# Altium integrated library TI Power Management Power Modules.IntLib: 831 symbols (part 12 of 44)
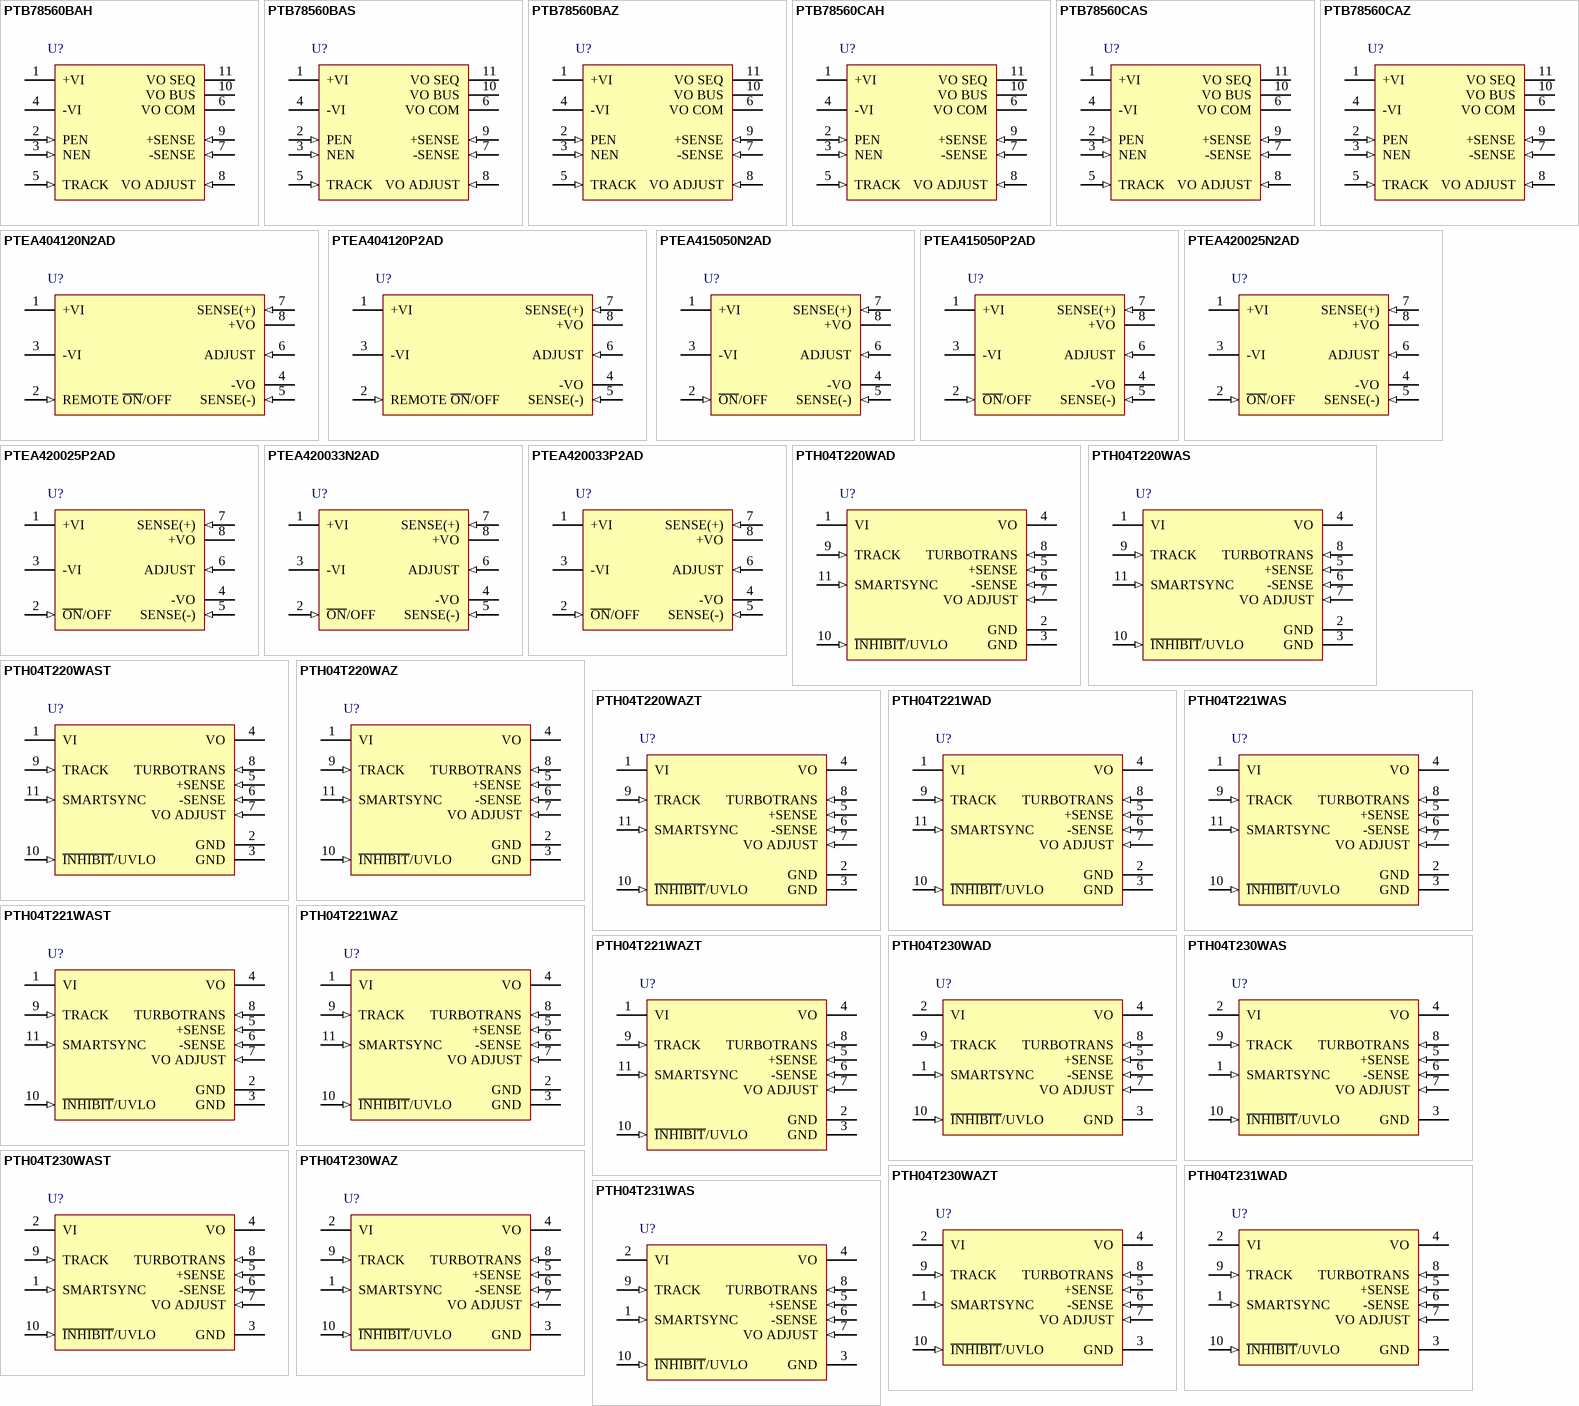
[diagram p34: symbols PTB78560BAH to PTH04T231WAS]

## PTB78560CAH
designator U?
30 W, 24 V / 48 V Input DC-DC Converter With Auto-Track Sequencing, -40 to 85 degC, 11-pin Module (ERW11), Pb-Free (RoHS); Manufacturer: Texas Instruments; PartNumber: PTB78560CAH; Iout(Max)(A): 2.5; Regulated Outputs(#): 1; SubFamily: Standard Brick Module; Vin(Max)(V): 60; Vin(Min)(V): 18; VO Adjustable: TRUE; Vout(Max)(V): 13.2; Vout(Min)(V): 9; DatasheetVersion: SLTS249; PackageVersion: 4206562/A; PackageReference: ERW11; PackageDescription: 11-Pin Plastic Special Shape, Body 26.54 x 51.94 mm; Supplier 1: Digi-Key; Supplier Part Number 1: 296-20363-ND; Supplier 2: Newark; Supplier Part Number 2: 43K4054; Supplier 3: Mouser; Supplier Part Number 3: 595-PTB78560CAH; Eco-Plan: Pb-Free (RoHS); Mounting Technology: Through Hole; ComponentLink1Description: Manufacturer URL; ComponentLink1URL: http://www.ti.com/; ComponentLink2Description: Datasheet; ComponentLink2URL: http://www.ti.com/general/docs/lit/getliterature.tsp?genericPartNumber=PTB78560C&fileType=pdf; ComponentLink3Description: Package Specification; ComponentLink3URL: http://www.ti.com/litv/pdf/mpds197; ComponentLink4Description: URL Link1; ComponentLink4URL: Samples URL:http://www.ti.com/product/ptb78560c#samples
footprint TI-ERW11_V (Module, 11-Leads, Body 51.94x26.54 mm)
pins: 1 +VI (power) "The positive input for the module with respect to -VI . When powering the module from a negative input voltage, this input is connected to the input source ground.", 2 PEN (in) "An open-collector (open-drain) positive logic input that is referenced to -VI . When this input is pulled to potential the converter output is disabled. This input must be open circuit for the converter to operate. The (See Datasheet)", 3 NEN (in) "An open-collector (open-drain) negative logic input that is referenced to -VI . This input must be pulled to -VI potential to enable the converter. When the input is open circuit, the converter output is disabled. If the (See Datasheet)", 4 -VI (power) "The negative input supply for the module, and the 0-V reference for the PEN and NEN enable inputs. When powering the module from a positive source, this input is connected to the input source return.", 5 TRACK (in) "This terminal is used in power-up sequencing applications to control the output voltage of Auto-Track compatible modules, powered from the converter VOBus output. This includes the converter VOSeq output on the PTB78560B. (See Datasheet)", 6 VO COM (power) "This is the output power return for both the VO Bus and VO Seq output voltages. This terminal should be connected to the common of the load circuit.", 7 -SENSE (in) "Provides the converter with a remote sense capability when used with +Sense. For optimum output voltage accuracy, this pin should always be connected to VOCOM, close to the load circuit. This terminal is also the reference (See Datasheet)", 8 VO ADJUST (in) "A resistor must be connected between this terminal and -Sense to set the converter output voltage. A 0.05-W rated resistor may be used, with tolerance and temperature stability of 1% and 100 ppm/degreesC, respectively. If (See Datasheet)", 9 +SENSE (in) "The +Sense pin can be connected to VOBus (or VOSeq) output. When connected to VOSeq, remote sense compensation is delayed until the converter's power-up sequence is complete. The voltage at VOBus is also raised slightly. The (See Datasheet)", 10 VO BUS (power) "This is the positive power output with respect to VO COM, and the main output from the converter. It is dc isolated from the input power pins and produces a valid output voltage approximately 20 ms before the voltage at the (See Datasheet)", 11 VO SEQ (power) "This is a sequenced output voltage from the converter that is controlled by the Track terminal during power-up transitions. It is only available to the PTB78560B, and used with the output voltage set to 3.3 V (an I/O supply (See Datasheet)"

## PTB78560CAS
designator U?
30 W, 24 V / 48 V Input DC-DC Converter With Auto-Track Sequencing, -40 to 85 degC, 11-pin Module (ERY11); Manufacturer: Texas Instruments; PartNumber: PTB78560CAS; Eco-Plan: TBD; Iout(Max)(A): 2.5; Regulated Outputs(#): 1; SubFamily: Standard Brick Module; Vin(Max)(V): 60; Vin(Min)(V): 18; VO Adjustable: TRUE; Vout(Max)(V): 13.2; Vout(Min)(V): 9; DatasheetVersion: SLTS249; PackageVersion: 4206563/A; PackageReference: ERY11; PackageDescription: 11-Pin Plastic Special Shape, Body 26.54 x 51.94 mm; Supplier 1: Digi-Key; Supplier Part Number 1: 296-20364-ND; Supplier 2: Newark; Supplier Part Number 2: 43K4055; Supplier 3: Mouser; Supplier Part Number 3: 595-PTB78560CAS; Mounting Technology: Surface Mount; ComponentLink1Description: Manufacturer URL; ComponentLink1URL: http://www.ti.com/; ComponentLink2Description: Datasheet; ComponentLink2URL: http://www.ti.com/general/docs/lit/getliterature.tsp?genericPartNumber=PTB78560C&fileType=pdf; ComponentLink3Description: Package Specification; ComponentLink3URL: http://www.ti.com/lit/ml/mpds198/mpds198.pdf; ComponentLink4Description: URL Link1; ComponentLink4URL: Samples URL:http://www.ti.com/product/ptb78560c#samples
footprint TI-ERY11_V (Module, 11-Leads, Body 51.94x26.54mm)
pins: 1 +VI (power) "The positive input for the module with respect to -VI . When powering the module from a negative input voltage, this input is connected to the input source ground.", 2 PEN (in) "An open-collector (open-drain) positive logic input that is referenced to -VI . When this input is pulled to potential the converter output is disabled. This input must be open circuit for the converter to operate. The (See Datasheet)", 3 NEN (in) "An open-collector (open-drain) negative logic input that is referenced to -VI . This input must be pulled to -VI potential to enable the converter. When the input is open circuit, the converter output is disabled. If the (See Datasheet)", 4 -VI (power) "The negative input supply for the module, and the 0-V reference for the PEN and NEN enable inputs. When powering the module from a positive source, this input is connected to the input source return.", 5 TRACK (in) "This terminal is used in power-up sequencing applications to control the output voltage of Auto-Track compatible modules, powered from the converter VOBus output. This includes the converter VOSeq output on the PTB78560B. (See Datasheet)", 6 VO COM (power) "This is the output power return for both the VO Bus and VO Seq output voltages. This terminal should be connected to the common of the load circuit.", 7 -SENSE (in) "Provides the converter with a remote sense capability when used with +Sense. For optimum output voltage accuracy, this pin should always be connected to VOCOM, close to the load circuit. This terminal is also the reference (See Datasheet)", 8 VO ADJUST (in) "A resistor must be connected between this terminal and -Sense to set the converter output voltage. A 0.05-W rated resistor may be used, with tolerance and temperature stability of 1% and 100 ppm/degreesC, respectively. If (See Datasheet)", 9 +SENSE (in) "The +Sense pin can be connected to VOBus (or VOSeq) output. When connected to VOSeq, remote sense compensation is delayed until the converter's power-up sequence is complete. The voltage at VOBus is also raised slightly. The (See Datasheet)", 10 VO BUS (power) "This is the positive power output with respect to VO COM, and the main output from the converter. It is dc isolated from the input power pins and produces a valid output voltage approximately 20 ms before the voltage at the (See Datasheet)", 11 VO SEQ (power) "This is a sequenced output voltage from the converter that is controlled by the Track terminal during power-up transitions. It is only available to the PTB78560B, and used with the output voltage set to 3.3 V (an I/O supply (See Datasheet)"

## PTB78560CAZ
designator U?
30 W, 24 V / 48 V Input DC-DC Converter With Auto-Track Sequencing, -40 to 85 degC, 11-pin Module (ERY11), Pb-Free (RoHS); Manufacturer: Texas Instruments; PartNumber: PTB78560CAZ; Iout(Max)(A): 2.5; Regulated Outputs(#): 1; SubFamily: Standard Brick Module; Vin(Max)(V): 60; Vin(Min)(V): 18; VO Adjustable: TRUE; Vout(Max)(V): 13.2; Vout(Min)(V): 9; DatasheetVersion: SLTS249; PackageVersion: 4206563/A; PackageReference: ERY11; PackageDescription: 11-Pin Plastic Special Shape, Body 26.54 x 51.94 mm; Supplier 1: Digi-Key; Supplier Part Number 1: 296-20365-ND; Supplier 2: Newark; Supplier Part Number 2: 43K4056; Supplier 3: Mouser; Supplier Part Number 3: 595-PTB78560CAZ; Eco-Plan: Pb-Free (RoHS); Mounting Technology: Surface Mount; ComponentLink1Description: Manufacturer URL; ComponentLink1URL: http://www.ti.com/; ComponentLink2Description: Datasheet; ComponentLink2URL: http://www.ti.com/general/docs/lit/getliterature.tsp?genericPartNumber=PTB78560C&fileType=pdf; ComponentLink3Description: Package Specification; ComponentLink3URL: http://www.ti.com/lit/ml/mpds198/mpds198.pdf; ComponentLink4Description: URL Link1; ComponentLink4URL: Samples URL:http://www.ti.com/product/tps55010#samples
footprint TI-ERY11_V (Module, 11-Leads, Body 51.94x26.54mm)
pins: 1 +VI (power) "The positive input for the module with respect to -VI . When powering the module from a negative input voltage, this input is connected to the input source ground.", 2 PEN (in) "An open-collector (open-drain) positive logic input that is referenced to -VI . When this input is pulled to potential the converter output is disabled. This input must be open circuit for the converter to operate. The (See Datasheet)", 3 NEN (in) "An open-collector (open-drain) negative logic input that is referenced to -VI . This input must be pulled to -VI potential to enable the converter. When the input is open circuit, the converter output is disabled. If the (See Datasheet)", 4 -VI (power) "The negative input supply for the module, and the 0-V reference for the PEN and NEN enable inputs. When powering the module from a positive source, this input is connected to the input source return.", 5 TRACK (in) "This terminal is used in power-up sequencing applications to control the output voltage of Auto-Track compatible modules, powered from the converter VOBus output. This includes the converter VOSeq output on the PTB78560B. (See Datasheet)", 6 VO COM (power) "This is the output power return for both the VO Bus and VO Seq output voltages. This terminal should be connected to the common of the load circuit.", 7 -SENSE (in) "Provides the converter with a remote sense capability when used with +Sense. For optimum output voltage accuracy, this pin should always be connected to VOCOM, close to the load circuit. This terminal is also the reference (See Datasheet)", 8 VO ADJUST (in) "A resistor must be connected between this terminal and -Sense to set the converter output voltage. A 0.05-W rated resistor may be used, with tolerance and temperature stability of 1% and 100 ppm/degreesC, respectively. If (See Datasheet)", 9 +SENSE (in) "The +Sense pin can be connected to VOBus (or VOSeq) output. When connected to VOSeq, remote sense compensation is delayed until the converter's power-up sequence is complete. The voltage at VOBus is also raised slightly. The (See Datasheet)", 10 VO BUS (power) "This is the positive power output with respect to VO COM, and the main output from the converter. It is dc isolated from the input power pins and produces a valid output voltage approximately 20 ms before the voltage at the (See Datasheet)", 11 VO SEQ (power) "This is a sequenced output voltage from the converter that is controlled by the Track terminal during power-up transitions. It is only available to the PTB78560B, and used with the output voltage set to 3.3 V (an I/O supply (See Datasheet)"

## PTEA404120N2AD
designator U?
50 W, 48 V Input, 12 V Output, Isolated DC-DC Converter, -40 to 85 degC, 8-pin Module (EAW8), Pb-Free (RoHS); Manufacturer: Texas Instruments; PartNumber: PTEA404120N2AD; Iout(Max)(A): 4.2; Regulated Outputs(#): 1; SubFamily: 48V Standard Pinout Brick and 36V to 75V Input; Vin(Max)(V): 75; Vin(Min)(V): 36; VO Adjustable: TRUE; Vout(Max)(V): 13.2; Vout(Min)(V): 7.2; DatasheetVersion: SLTS274C; PackageVersion: 4208117/B; PackageReference: EAW8; PackageDescription: 8-Pin Plastic Special Shape, Body 22.86 x 56.39 mm; Supplier 1: Digi-Key; Supplier Part Number 1: 296-21399-ND; Supplier 2: Farnell; Supplier Part Number 2: 1755090; Supplier 3: Newark; Supplier Part Number 3: 27M0662; Supplier 4: Mouser; Supplier Part Number 4: 595-PTEA404120N2AD; Eco-Plan: Pb-Free (RoHS); Mounting Technology: Through Hole; ComponentLink1Description: Manufacturer URL; ComponentLink1URL: http://www.ti.com/; ComponentLink2Description: Datasheet; ComponentLink2URL: http://www.ti.com/general/docs/lit/getliterature.tsp?genericPartNumber=PTEA404120&fileType=pdf; ComponentLink3Description: Package Specification; ComponentLink3URL: http://www.ti.com/lit/ml/mpds296a/mpds296a.pdf; ComponentLink4Description: URL Link1; ComponentLink4URL: Samples URL:http://www.ti.com/product/ptea404120#samples
footprint TI-EAW8_V (Module, 8-Leads, Body 56.39x22.86mm)
pins: 1 +VI (power) "The positive input for the module with respect to -VI. When powering the module from a -48-V telecom central office supply, this input is connected to the primary system ground.", 2 REMOTE ~{ON}/OFF (in) "This input controls the On/Off status of the output voltage. It is either driven low (-VI potential), or left open-circuit. For units identified with the NEN option, applying a logic low to this pin will enable the output. (See Datasheet)", 3 -VI (power) "The negative input supply for the module, and the 0 VDC reference for the Remote On/Off input. When powering the module from a +48-V supply, this input is connected to the 48-V return.", 4 -VO (power) "The negative power output with respect to +VO, which is DC isolated from the input supply pins. This output is normally connected to the secondary circuit common when a positive output voltage is desired.", 5 SENSE(-) (in) "Provides the converter with an output sense capability when used in conjunction with Sense(+) input. For optimum output voltage accuracy this pin should always be connected to -VO.", 6 ADJUST (in) "Allows the output voltage to be trimmed by up or down between +10% and -20% of its nominal value. The adjustment method uses a single external resistor. Connecting the resistor between VO Adjust and -VO adjusts the output (See Datasheet)", 7 SENSE(+) (in) "Provides the converter with an output sense capability to regulate the set-point voltage directly at the load. When used with Sense(-), the regulation circuitry will compensate for voltage drop between the converter and the (See Datasheet)", 8 +VO (power) "The positive power output with respect to -VO, which is DC isolated from the input supply pins. If a negative output voltage is desired, +VO should be connected to the secondary circuit common and the output taken from -VO."

## PTEA404120P2AD
designator U?
50 W, 48 V Input, 12 V Output, Isolated DC-DC Converter, -40 to 85 degC, 8-pin Module (EAW8), Pb-Free (RoHS); Manufacturer: Texas Instruments; PartNumber: PTEA404120P2AD; Iout(Max)(A): 4.2; Regulated Outputs(#): 1; SubFamily: 48V Standard Pinout Brick and 36V to 75V Input; Vin(Max)(V): 75; Vin(Min)(V): 36; VO Adjustable: TRUE; Vout(Max)(V): 13.2; Vout(Min)(V): 7.2; DatasheetVersion: SLTS274C; PackageVersion: 4208117/B; PackageReference: EAW8; PackageDescription: 8-Pin Plastic Special Shape, Body 22.86 x 56.39 mm; Supplier 1: Digi-Key; Supplier Part Number 1: 296-21400-ND; Supplier 2: Newark; Supplier Part Number 2: 27M0663; Supplier 3: Mouser; Supplier Part Number 3: 595-PTEA404120P2AD; Eco-Plan: Pb-Free (RoHS); Mounting Technology: Through Hole; ComponentLink1Description: Manufacturer URL; ComponentLink1URL: http://www.ti.com/; ComponentLink2Description: Datasheet; ComponentLink2URL: http://www.ti.com/general/docs/lit/getliterature.tsp?genericPartNumber=PTEA404120&fileType=pdf; ComponentLink3Description: Package Specification; ComponentLink3URL: http://www.ti.com/lit/ml/mpds296a/mpds296a.pdf; ComponentLink4Description: URL Link1; ComponentLink4URL: Samples URL:http://www.ti.com/product/ptea404120#samples
footprint TI-EAW8_V (Module, 8-Leads, Body 56.39x22.86mm)
pins: 1 +VI (power) "The positive input for the module with respect to -VI. When powering the module from a -48-V telecom central office supply, this input is connected to the primary system ground.", 2 REMOTE ~{ON}/OFF (in) "This input controls the On/Off status of the output voltage. It is either driven low (-VI potential), or left open-circuit. For units identified with the NEN option, applying a logic low to this pin will enable the output. (See Datasheet)", 3 -VI (power) "The negative input supply for the module, and the 0 VDC reference for the Remote On/Off input. When powering the module from a +48-V supply, this input is connected to the 48-V return.", 4 -VO (power) "The negative power output with respect to +VO, which is DC isolated from the input supply pins. This output is normally connected to the secondary circuit common when a positive output voltage is desired.", 5 SENSE(-) (in) "Provides the converter with an output sense capability when used in conjunction with Sense(+) input. For optimum output voltage accuracy this pin should always be connected to -VO.", 6 ADJUST (in) "Allows the output voltage to be trimmed by up or down between +10% and -20% of its nominal value. The adjustment method uses a single external resistor. Connecting the resistor between VO Adjust and -VO adjusts the output (See Datasheet)", 7 SENSE(+) (in) "Provides the converter with an output sense capability to regulate the set-point voltage directly at the load. When used with Sense(-), the regulation circuitry will compensate for voltage drop between the converter and the (See Datasheet)", 8 +VO (power) "The positive power output with respect to -VO, which is DC isolated from the input supply pins. If a negative output voltage is desired, +VO should be connected to the secondary circuit common and the output taken from -VO."

## PTEA415050N2AD
designator U?
15 A, 48 V Input, 5 V Output, Isolated, 1 / 8th Brick DC-DC Converter, -40 to 85 degC, 8-pin Module (EAW8); Manufacturer: Texas Instruments; PartNumber: PTEA415050N2AD; Eco-Plan: TBD; Iout(Max)(A): 15; Regulated Outputs(#): 1; SubFamily: Standard Brick Module; Vin(Max)(V): 75; Vin(Min)(V): 36; Vout(Max)(V): 5.5; Vout(Min)(V): 4; DatasheetVersion: SLTS291B; PackageVersion: 4208117/B; PackageReference: EAW8; PackageDescription: 8-Pin Plastic Special Shape, Body 22.86 x 56.39 mm; Supplier 1: Digi-Key; Supplier Part Number 1: 296-27222-ND; Supplier 2: Newark; Supplier Part Number 2: 72R6300; Supplier 3: Mouser; Supplier Part Number 3: 595-PTEA415050N2AD; Mounting Technology: Through Hole; ComponentLink1Description: Manufacturer URL; ComponentLink1URL: http://www.ti.com/; ComponentLink2Description: Datasheet; ComponentLink2URL: http://www.ti.com/general/docs/lit/getliterature.tsp?genericPartNumber=PTEA415050&fileType=pdf; ComponentLink3Description: Package Specification; ComponentLink3URL: http://www.ti.com/lit/ml/mpds296a/mpds296a.pdf; ComponentLink4Description: URL Link1; ComponentLink4URL: Samples URL:http://www.ti.com/product/ptea415050#samples
footprint TI-EAW8_V (Module, 8-Leads, Body 56.39x22.86mm)
pins: 1 +VI (power) "The positive input for the module with respect to -VI. When powering the module from a -48-V telecom central office supply, this input is connected to the primary system ground.", 2 ~{ON}/OFF (in) "This input controls the On/Off status of the output voltage. It is either driven low (-VI potential), or left open-circuit. For units identified with the NEN option, applying a logic low to this pin will enable the output. (See Datasheet)", 3 -VI (power) "The negative input supply for the module, and the 0 VDC reference for the Remote On/Off input. When powering the module from a +48-V supply, this input is connected to the 48-V return.", 4 -VO (power) "The negative power output with respect to +VO, which is DC isolated from the input supply pins. This output is normally connected to the secondary circuit common when a positive output voltage is desired.", 5 SENSE(-) (in) "Provides the converter with an output sense capability when used in conjunction with Sense(+) input. For optimum output voltage accuracy this pin should always be connected to -VO.", 6 ADJUST (in) "Allows the output voltage to be trimmed by up or down between +10% and -20% of its nominal value. The adjustment method uses a single external resistor. Connecting the resistor between VO Adjust and -VO adjusts the output (See Datasheet)", 7 SENSE(+) (in) "Provides the converter with an output sense capability to regulate the set-point voltage directly at the load. When used with Sense(-), the regulation circuitry will compensate for voltage drop between the converter and the (See Datasheet)", 8 +VO (power) "The positive power output with respect to -VO, which is DC isolated from the input supply pins. If a negative output voltage is desired, +VO should be connected to the secondary circuit common and the output taken from -VO."

## PTEA415050P2AD
designator U?
15 A, 48 V Input, 5 V Output, Isolated, 1 / 8th Brick DC-DC Converter, -40 to 85 degC, 8-pin Module (EAW8); Manufacturer: Texas Instruments; PartNumber: PTEA415050P2AD; Eco-Plan: TBD; Iout(Max)(A): 15; Regulated Outputs(#): 1; SubFamily: Standard Brick Module; Vin(Max)(V): 75; Vin(Min)(V): 36; VO Adjustable: TRUE; Vout(Max)(V): 5.5; Vout(Min)(V): 4; DatasheetVersion: SLTS291B; PackageVersion: 4208117/B; PackageReference: EAW8; PackageDescription: 8-Pin Plastic Special Shape, Body 22.86 x 56.39 mm; Supplier 1: Digi-Key; Supplier Part Number 1: 296-27223-ND; Supplier 2: Newark; Supplier Part Number 2: 72R6301; Supplier 3: Mouser; Supplier Part Number 3: 595-PTEA415050P2AD; Mounting Technology: Through Hole; ComponentLink1Description: Manufacturer URL; ComponentLink1URL: http://www.ti.com/; ComponentLink2Description: Datasheet; ComponentLink2URL: http://www.ti.com/general/docs/lit/getliterature.tsp?genericPartNumber=PTEA415050&fileType=pdf; ComponentLink3Description: Package Specification; ComponentLink3URL: http://www.ti.com/lit/ml/mpds296a/mpds296a.pdf; ComponentLink4Description: URL Link1; ComponentLink4URL: Samples URL:http://www.ti.com/product/tps55010#samples
footprint TI-EAW8_V (Module, 8-Leads, Body 56.39x22.86mm)
pins: 1 +VI (power) "The positive input for the module with respect to -VI. When powering the module from a -48-V telecom central office supply, this input is connected to the primary system ground.", 2 ~{ON}/OFF (in) "This input controls the On/Off status of the output voltage. It is either driven low (-VI potential), or left open-circuit. For units identified with the NEN option, applying a logic low to this pin will enable the output. (See Datasheet)", 3 -VI (power) "The negative input supply for the module, and the 0 VDC reference for the Remote On/Off input. When powering the module from a +48-V supply, this input is connected to the 48-V return.", 4 -VO (power) "The negative power output with respect to +VO, which is DC isolated from the input supply pins. This output is normally connected to the secondary circuit common when a positive output voltage is desired.", 5 SENSE(-) (in) "Provides the converter with an output sense capability when used in conjunction with Sense(+) input. For optimum output voltage accuracy this pin should always be connected to -VO.", 6 ADJUST (in) "Allows the output voltage to be trimmed by up or down between +10% and -20% of its nominal value. The adjustment method uses a single external resistor. Connecting the resistor between VO Adjust and -VO adjusts the output (See Datasheet)", 7 SENSE(+) (in) "Provides the converter with an output sense capability to regulate the set-point voltage directly at the load. When used with Sense(-), the regulation circuitry will compensate for voltage drop between the converter and the (See Datasheet)", 8 +VO (power) "The positive power output with respect to -VO, which is DC isolated from the input supply pins. If a negative output voltage is desired, +VO should be connected to the secondary circuit common and the output taken from -VO."

## PTEA420025N2AD
designator U?
20 A, 48 V Input, Isolated, 1 / 8th Brick DC-DC Converter, -40 to 85 degC, 8-pin Module (EAW8), Pb-Free (RoHS); Manufacturer: Texas Instruments; PartNumber: PTEA420025N2AD; Iout(Max)(A): 20; Regulated Outputs(#): 1; SubFamily: Standard Brick Module; Vin(Max)(V): 75; Vin(Min)(V): 36; Vout(Max)(V): 2.75; Vout(Min)(V): 1.5; DatasheetVersion: SLTS288C; PackageVersion: 4208117/B; PackageReference: EAW8; PackageDescription: 8-Pin Plastic Special Shape, Body 22.86 x 56.39 mm; Supplier 1: Digi-Key; Supplier Part Number 1: 296-22971-ND; Supplier 2: Mouser; Supplier Part Number 2: 595-PTEA420025N2AD; Eco-Plan: Pb-Free (RoHS); Mounting Technology: Through Hole; ComponentLink1Description: Manufacturer URL; ComponentLink1URL: http://www.ti.com/; ComponentLink2Description: Datasheet; ComponentLink2URL: http://www.ti.com/general/docs/lit/getliterature.tsp?genericPartNumber=PTEA420025&fileType=pdf; ComponentLink3Description: Package Specification; ComponentLink3URL: http://www.ti.com/lit/ml/mpds296a/mpds296a.pdf; ComponentLink4Description: URL Link1; ComponentLink4URL: Samples URL:http://www.ti.com/product/ptea420025#samples
footprint TI-EAW8_V (Module, 8-Leads, Body 56.39x22.86mm)
pins: 1 +VI (power) "The positive input for the module with respect to -VI. When powering the module from a -48-V telecom central office supply, this input is connected to the primary system ground.", 2 ~{ON}/OFF (in) "This input controls the On/Off status of the output voltage. It is either driven low (-VI potential), or left open-circuit. For units identified with the NEN option, applying a logic low to this pin will enable the output. (See Datasheet)", 3 -VI (power) "The negative input supply for the module, and the 0 VDC reference for the Remote On/Off input. When powering the module from a +48-V supply, this input is connected to the 48-V return.", 4 -VO (power) "The negative power output with respect to +VO, which is DC isolated from the input supply pins. This output is normally connected to the secondary circuit common when a positive output voltage is desired.", 5 SENSE(-) (in) "Provides the converter with an output sense capability when used in conjunction with Sense(+) input. For optimum output voltage accuracy this pin should always be connected to -VO.", 6 ADJUST (in) "Allows the output voltage to be trimmed by up or down between +10% and -20% of its nominal value. The adjustment method uses a single external resistor. Connecting the resistor between VO Adjust and -VO adjusts the output (See Datasheet)", 7 SENSE(+) (in) "Provides the converter with an output sense capability to regulate the set-point voltage directly at the load. When used with Sense(-), the regulation circuitry will compensate for voltage drop between the converter and the (See Datasheet)", 8 +VO (power) "The positive power output with respect to -VO, which is DC isolated from the input supply pins. If a negative output voltage is desired, +VO should be connected to the secondary circuit common and the output taken from -VO."

## PTEA420025P2AD
designator U?
20 A, 48 V Input, Isolated, 1 / 8th Brick DC-DC Converter, -40 to 85 degC, 8-pin Module (EAW8), Pb-Free (RoHS); Manufacturer: Texas Instruments; PartNumber: PTEA420025P2AD; Iout(Max)(A): 20; Regulated Outputs(#): 1; SubFamily: Standard Brick Module; Vin(Max)(V): 75; Vin(Min)(V): 36; VO Adjustable: TRUE; Vout(Max)(V): 2.75; Vout(Min)(V): 1.5; DatasheetVersion: SLTS288C; PackageVersion: 4208117/B; PackageReference: EAW8; PackageDescription: 8-Pin Plastic Special Shape, Body 22.86 x 56.39 mm; Supplier 1: Digi-Key; Supplier Part Number 1: 296-24182-ND; Supplier 2: Mouser; Supplier Part Number 2: 595-PTEA420025P2AD; Eco-Plan: Pb-Free (RoHS); Mounting Technology: Through Hole; ComponentLink1Description: Manufacturer URL; ComponentLink1URL: http://www.ti.com/; ComponentLink2Description: Datasheet; ComponentLink2URL: http://www.ti.com/general/docs/lit/getliterature.tsp?genericPartNumber=PTEA420025&fileType=pdf; ComponentLink3Description: Package Specification; ComponentLink3URL: http://www.ti.com/lit/ml/mpds296a/mpds296a.pdf; ComponentLink4Description: URL Link1; ComponentLink4URL: Samples URL:http://www.ti.com/product/tps55010#samples
footprint TI-EAW8_V (Module, 8-Leads, Body 56.39x22.86mm)
pins: 1 +VI (power) "The positive input for the module with respect to -VI. When powering the module from a -48-V telecom central office supply, this input is connected to the primary system ground.", 2 ~{ON}/OFF (in) "This input controls the On/Off status of the output voltage. It is either driven low (-VI potential), or left open-circuit. For units identified with the NEN option, applying a logic low to this pin will enable the output. (See Datasheet)", 3 -VI (power) "The negative input supply for the module, and the 0 VDC reference for the Remote On/Off input. When powering the module from a +48-V supply, this input is connected to the 48-V return.", 4 -VO (power) "The negative power output with respect to +VO, which is DC isolated from the input supply pins. This output is normally connected to the secondary circuit common when a positive output voltage is desired.", 5 SENSE(-) (in) "Provides the converter with an output sense capability when used in conjunction with Sense(+) input. For optimum output voltage accuracy this pin should always be connected to -VO.", 6 ADJUST (in) "Allows the output voltage to be trimmed by up or down between +10% and -20% of its nominal value. The adjustment method uses a single external resistor. Connecting the resistor between VO Adjust and -VO adjusts the output (See Datasheet)", 7 SENSE(+) (in) "Provides the converter with an output sense capability to regulate the set-point voltage directly at the load. When used with Sense(-), the regulation circuitry will compensate for voltage drop between the converter and the (See Datasheet)", 8 +VO (power) "The positive power output with respect to -VO, which is DC isolated from the input supply pins. If a negative output voltage is desired, +VO should be connected to the secondary circuit common and the output taken from -VO."

## PTEA420033N2AD
designator U?
20 A, 48 V Input, Isolated, 1 / 8th Brick DC-DC Converter, -40 to 85 degC, 8-pin Module (EAW8), Pb-Free (RoHS); Manufacturer: Texas Instruments; PartNumber: PTEA420033N2AD; Iout(Max)(A): 20; Regulated Outputs(#): 1; SubFamily: Standard Brick Module; Vin(Max)(V): 75; Vin(Min)(V): 36; Vout(Max)(V): 3.63; Vout(Min)(V): 1.98; DatasheetVersion: SLTS288C; PackageVersion: 4208117/B; PackageReference: EAW8; PackageDescription: 8-Pin Plastic Special Shape, Body 22.86 x 56.39 mm; Supplier 1: Digi-Key; Supplier Part Number 1: 296-22972-ND; Supplier 2: Newark; Supplier Part Number 2: 73M6384; Supplier 3: Mouser; Supplier Part Number 3: 595-PTEA420033N2AD; Eco-Plan: Pb-Free (RoHS); Mounting Technology: Through Hole; ComponentLink1Description: Manufacturer URL; ComponentLink1URL: http://www.ti.com/; ComponentLink2Description: Datasheet; ComponentLink2URL: http://www.ti.com/general/docs/lit/getliterature.tsp?genericPartNumber=PTEA420033&fileType=pdf; ComponentLink3Description: Package Specification; ComponentLink3URL: http://www.ti.com/lit/ml/mpds296a/mpds296a.pdf; ComponentLink4Description: URL Link1; ComponentLink4URL: Samples URL:http://www.ti.com/product/ptea420033#samples
footprint TI-EAW8_V (Module, 8-Leads, Body 56.39x22.86mm)
pins: 1 +VI (power) "The positive input for the module with respect to -VI. When powering the module from a -48-V telecom central office supply, this input is connected to the primary system ground.", 2 ~{ON}/OFF (in) "This input controls the On/Off status of the output voltage. It is either driven low (-VI potential), or left open-circuit. For units identified with the NEN option, applying a logic low to this pin will enable the output. (See Datasheet)", 3 -VI (power) "The negative input supply for the module, and the 0 VDC reference for the Remote On/Off input. When powering the module from a +48-V supply, this input is connected to the 48-V return.", 4 -VO (power) "The negative power output with respect to +VO, which is DC isolated from the input supply pins. This output is normally connected to the secondary circuit common when a positive output voltage is desired.", 5 SENSE(-) (in) "Provides the converter with an output sense capability when used in conjunction with Sense(+) input. For optimum output voltage accuracy this pin should always be connected to -VO.", 6 ADJUST (in) "Allows the output voltage to be trimmed by up or down between +10% and -20% of its nominal value. The adjustment method uses a single external resistor. Connecting the resistor between VO Adjust and -VO adjusts the output (See Datasheet)", 7 SENSE(+) (in) "Provides the converter with an output sense capability to regulate the set-point voltage directly at the load. When used with Sense(-), the regulation circuitry will compensate for voltage drop between the converter and the (See Datasheet)", 8 +VO (power) "The positive power output with respect to -VO, which is DC isolated from the input supply pins. If a negative output voltage is desired, +VO should be connected to the secondary circuit common and the output taken from -VO."

## PTEA420033P2AD
designator U?
20 A, 48 V Input, Isolated, 1 / 8th Brick DC-DC Converter, -40 to 85 degC, 8-pin Module (EAW8), Pb-Free (RoHS); Manufacturer: Texas Instruments; PartNumber: PTEA420033P2AD; Iout(Max)(A): 20; Regulated Outputs(#): 1; SubFamily: Standard Brick Module; Vin(Max)(V): 75; Vin(Min)(V): 36; Vout(Max)(V): 3.63; Vout(Min)(V): 1.98; DatasheetVersion: SLTS288C; PackageVersion: 4208117/B; PackageReference: EAW8; PackageDescription: 8-Pin Plastic Special Shape, Body 22.86 x 56.39 mm; Supplier 1: Digi-Key; Supplier Part Number 1: 296-24183-ND; Supplier 2: Mouser; Supplier Part Number 2: 595-PTEA420033P2AD; Eco-Plan: Pb-Free (RoHS); Mounting Technology: Through Hole; ComponentLink1Description: Manufacturer URL; ComponentLink1URL: http://www.ti.com/; ComponentLink2Description: Datasheet; ComponentLink2URL: http://www.ti.com/general/docs/lit/getliterature.tsp?genericPartNumber=PTEA420033&fileType=pdf; ComponentLink3Description: Package Specification; ComponentLink3URL: http://www.ti.com/lit/ml/mpds296a/mpds296a.pdf; ComponentLink4Description: URL Link1; ComponentLink4URL: Samples URL:http://www.ti.com/product/tps55010#samples
footprint TI-EAW8_V (Module, 8-Leads, Body 56.39x22.86mm)
pins: 1 +VI (power) "The positive input for the module with respect to -VI. When powering the module from a -48-V telecom central office supply, this input is connected to the primary system ground.", 2 ~{ON}/OFF (in) "This input controls the On/Off status of the output voltage. It is either driven low (-VI potential), or left open-circuit. For units identified with the NEN option, applying a logic low to this pin will enable the output. (See Datasheet)", 3 -VI (power) "The negative input supply for the module, and the 0 VDC reference for the Remote On/Off input. When powering the module from a +48-V supply, this input is connected to the 48-V return.", 4 -VO (power) "The negative power output with respect to +VO, which is DC isolated from the input supply pins. This output is normally connected to the secondary circuit common when a positive output voltage is desired.", 5 SENSE(-) (in) "Provides the converter with an output sense capability when used in conjunction with Sense(+) input. For optimum output voltage accuracy this pin should always be connected to -VO.", 6 ADJUST (in) "Allows the output voltage to be trimmed by up or down between +10% and -20% of its nominal value. The adjustment method uses a single external resistor. Connecting the resistor between VO Adjust and -VO adjusts the output (See Datasheet)", 7 SENSE(+) (in) "Provides the converter with an output sense capability to regulate the set-point voltage directly at the load. When used with Sense(-), the regulation circuitry will compensate for voltage drop between the converter and the (See Datasheet)", 8 +VO (power) "The positive power output with respect to -VO, which is DC isolated from the input supply pins. If a negative output voltage is desired, +VO should be connected to the secondary circuit common and the output taken from -VO."

## PTH04T220WAD
designator U?
16 A, 2.2 to 5.5 V Input, Non-Isolated, Wide-Output, Adjustable Power Module with TurboTrans, -40 to 85 degC, 11-pin Module (EBP11), Pb-Free (RoHS); Manufacturer: Texas Instruments; PartNumber: PTH04T220WAD; Iout(Max)(A): 16; Regulated Outputs(#): 1; SubFamily: Non-Isolated POL; Vin(Max)(V): 5.5; Vin(Min)(V): 2.2; VO Adjustable: TRUE; Vout(Max)(V): 3.6; Vout(Min)(V): 0.69; DatasheetVersion: SLTS275D; PackageVersion: 4208348/C; PackageReference: EBP11; PackageDescription: 11-Pin Plastic Special Shape, Body 18.92 x 25.27 mm; Supplier 1: Digi-Key; Supplier Part Number 1: 296-21401-ND; Supplier 2: Newark; Supplier Part Number 2: 27M0664; Supplier 3: Mouser; Supplier Part Number 3: 595-PTH04T220WAD; Eco-Plan: Pb-Free (RoHS); Mounting Technology: Through Hole; ComponentLink1Description: Manufacturer URL; ComponentLink1URL: http://www.ti.com/; ComponentLink2Description: Datasheet; ComponentLink2URL: http://www.ti.com/general/docs/lit/getliterature.tsp?genericPartNumber=PTH04T220W&fileType=pdf; ComponentLink3Description: Package Specification; ComponentLink3URL: http://www.ti.com/litv/pdf/mpds311b; ComponentLink4Description: URL Link1; ComponentLink4URL: Samples URL:http://www.ti.com/product/pth04t220w#samples
footprint TI-EBP11_V (Module, 11-Leads, Body 25.27x18.92mm)
pins: 1 VI (power) "The positive input voltage power node to the module, which is referenced to common GND.", 2 GND (power) "This is the common ground connection for the VI and VO power connections. It is also the 0 Vdc reference for the control inputs.", 3 GND (power) "This is the common ground connection for the VI and VO power connections. It is also the 0 Vdc reference for the control inputs.", 4 VO (power) "The regulated positive power output with respect to the GND", 5 +SENSE (in) "The sense input allows the regulation circuit to compensate for voltage drop between the module and the load. For optimal voltage accuracy, +Sense must be connected to VO, close to the load.", 6 -SENSE (in) "The sense input allows the regulation circuit to compensate for voltage drop between the module and the load. For optimal voltage accuracy, -Sense must be connected to GND (pin 3), very close to the module (within 10 cm).", 7 VO ADJUST (in) "A 0.05 W 1% resistor must be directly connected between this pin and pin 6 (- Sense) to set the output voltage to a value higher than 0.69 V. The temperature stability of the resistor should be 100 ppm/degreesC (or better). (See Datasheet)", 8 TURBOTRANS (in) "This input pin adjusts the transient response of the regulator. To activate the TurboTrans feature, a 1%, 0.05 W resistor must be connected between this pin and pin 5 (+Sense) very close to the module. For a given value of (See Datasheet)", 9 TRACK (in) "This is an analog control input that enables the output voltage to follow an external voltage. This pin becomes active typically 20 ms after the input voltage has been applied, and allows direct control of the output voltage (See Datasheet)", 10 ~{INHIBIT}/UVLO (in) "The Inhibit pin is an open-collector/drain, negative logic input that is referenced to GND. Applying a low level ground signal to this input disables the module’s output and turns off the output voltage. When the Inhibit (See Datasheet)", 11 SMARTSYNC (in) "This input pin sychronizes the switching frequency of the module to an external clock frequency. The SmartSync feature can be used to sychronize the switching fequency of multiple PTH04T220/221W  modules, aiding EMI noise (See Datasheet)"

## PTH04T220WAS
designator U?
16 A, 2.2 to 5.5 V Input, Non-Isolated, Wide-Output, Adjustable Power Module with TurboTrans, -40 to 85 degC, 11-pin Module (EBQ11); Manufacturer: Texas Instruments; PartNumber: PTH04T220WAS; Eco-Plan: TBD; Iout(Max)(A): 16; Regulated Outputs(#): 1; SubFamily: Non-Isolated POL; Vin(Max)(V): 5.5; Vin(Min)(V): 2.2; VO Adjustable: TRUE; Vout(Max)(V): 3.6; Vout(Min)(V): 0.69; DatasheetVersion: SLTS275D; PackageVersion: 4208349/C; PackageReference: EBQ11; PackageDescription: 11-Pin Plastic Special Shape, Body 18.92 x 25.27 mm; Supplier 1: Digi-Key; Supplier Part Number 1: 296-21402-ND; Supplier 2: Newark; Supplier Part Number 2: 27M0665; Supplier 3: Mouser; Supplier Part Number 3: 595-PTH04T220WAS; Mounting Technology: Surface Mount; ComponentLink1Description: Manufacturer URL; ComponentLink1URL: http://www.ti.com/; ComponentLink2Description: Datasheet; ComponentLink2URL: http://www.ti.com/general/docs/lit/getliterature.tsp?genericPartNumber=PTH04T220W&fileType=pdf; ComponentLink3Description: Package Specification; ComponentLink3URL: http://www.ti.com/lit/ml/mpds314b/mpds314b.pdf; ComponentLink4Description: URL Link1; ComponentLink4URL: Samples URL:http://www.ti.com/product/pth04t220w#samples
footprint TI-EBQ11_V (Module, 11-Leads, Body 25.27x18.92mm)
pins: 1 VI (power) "The positive input voltage power node to the module, which is referenced to common GND.", 2 GND (power) "This is the common ground connection for the VI and VO power connections. It is also the 0 Vdc reference for the control inputs.", 3 GND (power) "This is the common ground connection for the VI and VO power connections. It is also the 0 Vdc reference for the control inputs.", 4 VO (power) "The regulated positive power output with respect to the GND", 5 +SENSE (in) "The sense input allows the regulation circuit to compensate for voltage drop between the module and the load. For optimal voltage accuracy, +Sense must be connected to VO, close to the load.", 6 -SENSE (in) "The sense input allows the regulation circuit to compensate for voltage drop between the module and the load. For optimal voltage accuracy, -Sense must be connected to GND (pin 3), very close to the module (within 10 cm).", 7 VO ADJUST (in) "A 0.05 W 1% resistor must be directly connected between this pin and pin 6 (- Sense) to set the output voltage to a value higher than 0.69 V. The temperature stability of the resistor should be 100 ppm/degreesC (or better). (See Datasheet)", 8 TURBOTRANS (in) "This input pin adjusts the transient response of the regulator. To activate the TurboTrans feature, a 1%, 0.05 W resistor must be connected between this pin and pin 5 (+Sense) very close to the module. For a given value of (See Datasheet)", 9 TRACK (in) "This is an analog control input that enables the output voltage to follow an external voltage. This pin becomes active typically 20 ms after the input voltage has been applied, and allows direct control of the output voltage (See Datasheet)", 10 ~{INHIBIT}/UVLO (in) "The Inhibit pin is an open-collector/drain, negative logic input that is referenced to GND. Applying a low level ground signal to this input disables the module’s output and turns off the output voltage. When the Inhibit (See Datasheet)", 11 SMARTSYNC (in) "This input pin sychronizes the switching frequency of the module to an external clock frequency. The SmartSync feature can be used to sychronize the switching fequency of multiple PTH04T220/221W  modules, aiding EMI noise (See Datasheet)"

## PTH04T220WAST
designator U?
16 A, 2.2 to 5.5 V Input, Non-Isolated, Wide-Output, Adjustable Power Module with TurboTrans, -40 to 85 degC, 11-pin Module (EBQ11); Manufacturer: Texas Instruments; PartNumber: PTH04T220WAST; Eco-Plan: TBD; Iout(Max)(A): 16; Regulated Outputs(#): 1; SubFamily: Non-Isolated POL; Vin(Max)(V): 5.5; Vin(Min)(V): 2.2; VO Adjustable: TRUE; Vout(Max)(V): 3.6; Vout(Min)(V): 0.69; DatasheetVersion: SLTS275D; PackageVersion: 4208349/C; PackageReference: EBQ11; PackageDescription: 11-Pin Plastic Special Shape, Body 18.92 x 25.27 mm; Supplier 1: Digi-Key; Supplier Part Number 1: PTH04T220WAST-ND; Supplier 2: Newark; Supplier Part Number 2: 27M0666; Supplier 3: Mouser; Supplier Part Number 3: 595-PTH04T220WAST; Mounting Technology: Surface Mount; ComponentLink1Description: Manufacturer URL; ComponentLink1URL: http://www.ti.com/; ComponentLink2Description: Datasheet; ComponentLink2URL: http://www.ti.com/general/docs/lit/getliterature.tsp?genericPartNumber=PTH04T220W&fileType=pdf; ComponentLink3Description: Package Specification; ComponentLink3URL: http://www.ti.com/lit/ml/mpds314b/mpds314b.pdf; ComponentLink4Description: URL Link1; ComponentLink4URL: Samples URL:http://www.ti.com/product/pth04t220w#samples
footprint TI-EBQ11_V (Module, 11-Leads, Body 25.27x18.92mm)
pins: 1 VI (power) "The positive input voltage power node to the module, which is referenced to common GND.", 2 GND (power) "This is the common ground connection for the VI and VO power connections. It is also the 0 Vdc reference for the control inputs.", 3 GND (power) "This is the common ground connection for the VI and VO power connections. It is also the 0 Vdc reference for the control inputs.", 4 VO (power) "The regulated positive power output with respect to the GND", 5 +SENSE (in) "The sense input allows the regulation circuit to compensate for voltage drop between the module and the load. For optimal voltage accuracy, +Sense must be connected to VO, close to the load.", 6 -SENSE (in) "The sense input allows the regulation circuit to compensate for voltage drop between the module and the load. For optimal voltage accuracy, -Sense must be connected to GND (pin 3), very close to the module (within 10 cm).", 7 VO ADJUST (in) "A 0.05 W 1% resistor must be directly connected between this pin and pin 6 (- Sense) to set the output voltage to a value higher than 0.69 V. The temperature stability of the resistor should be 100 ppm/degreesC (or better). (See Datasheet)", 8 TURBOTRANS (in) "This input pin adjusts the transient response of the regulator. To activate the TurboTrans feature, a 1%, 0.05 W resistor must be connected between this pin and pin 5 (+Sense) very close to the module. For a given value of (See Datasheet)", 9 TRACK (in) "This is an analog control input that enables the output voltage to follow an external voltage. This pin becomes active typically 20 ms after the input voltage has been applied, and allows direct control of the output voltage (See Datasheet)", 10 ~{INHIBIT}/UVLO (in) "The Inhibit pin is an open-collector/drain, negative logic input that is referenced to GND. Applying a low level ground signal to this input disables the module’s output and turns off the output voltage. When the Inhibit (See Datasheet)", 11 SMARTSYNC (in) "This input pin sychronizes the switching frequency of the module to an external clock frequency. The SmartSync feature can be used to sychronize the switching fequency of multiple PTH04T220/221W  modules, aiding EMI noise (See Datasheet)"